# Altium schematic symbol library HCSR04.SchLib: 1 symbol
Pins are listed as number, name and electrical type; pins without a type are passive.

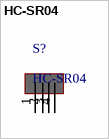
[diagram p0: symbol HC-SR04]

## HC-SR04
designator S?
footprint PCBComponent_1
pins: 1 VCC, 2 TRIG, 3 ECHO, 4 GND